# EAGLE library part MRI_PLUG_ODU (library con-siemens)
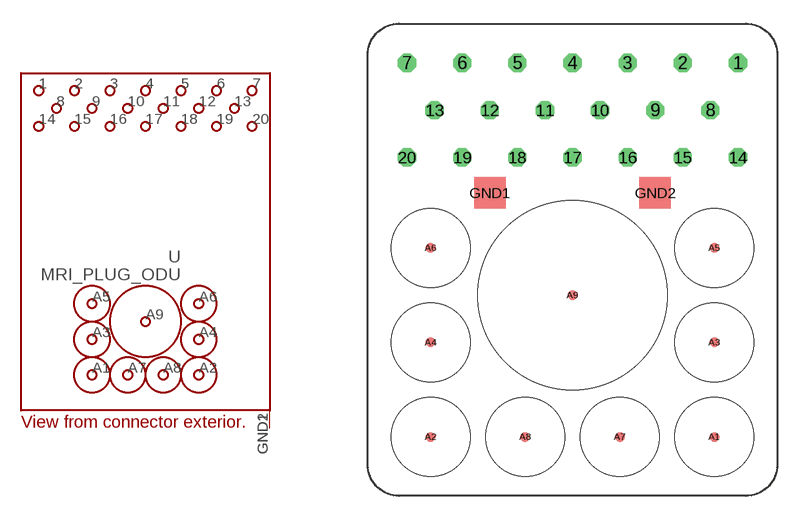
[diagram p0: symbol with the pads of MRI_PLUG_ODU_BODY_INSIDE; footprint MRI_PLUG_ODU_BODY_INSIDE]

Designator prefix -

## MRI_PLUG_ODU  [MRI_PLUG_ODU_BODY_INSIDE]
1  1
2  2
3  3
4  4
5  5
6  6
7  7
8  8
9  9
10  10
11  11
12  12
13  13
14  14
15  15
16  16
17  17
18  18
19  19
20  20
A1  A1
A2  A2
A3  A3
A4  A4
A5  A5
A6  A6
A7  A7
A8  A8
A9  A9
GND1  GND1
GND2  GND2

## Footprint MRI_PLUG_ODU_BODY_INSIDE (pad centres in mm)
drill 0.65 octagon: 1 10.5,12.5; 2 7,12.5; 3 3.5,12.5; 4 0,12.5; 5 -3.5,12.5; 6 -7,12.5; 7 -10.5,12.5; 8 8.75,9.5; 9 5.25,9.5; 10 1.75,9.5; 11 -1.75,9.5; 12 -5.25,9.5; 13 -8.75,9.5; 14 10.5,6.5; 15 7,6.5; 16 3.5,6.5; 17 0,6.5; 18 -3.5,6.5; 19 -7,6.5; 20 -10.5,6.5
smd 0.65 x 0.65: A1 9,-11.25; A2 -9,-11.25; A3 9,-5.25; A4 -9,-5.25; A5 9,0.75; A6 -9,0.75; A7 3,-11.25; A8 -3,-11.25; A9 0,-2.25
smd 2 x 2: GND1 -5.25,4.25; GND2 5.25,4.25
hole 12 at 0,-2.25
hole 5 at 9,0.75
hole 5 at 9,-5.25
hole 5 at 9,-11.25
hole 5 at -9,0.75
hole 5 at -9,-5.25
hole 5 at -9,-11.25
hole 5 at 3,-11.25
hole 5 at -3,-11.25